# Altium schematic symbol library Conn_Hirose_Electric_DM3AT-SF-PEJM5_eec.SchLib: 1 symbol
Pins are listed as number, name and electrical type; pins without a type are passive.

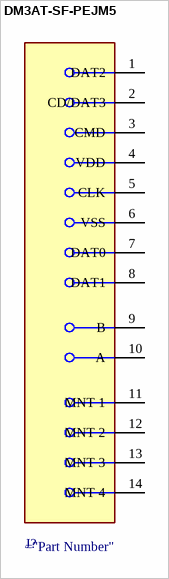
[diagram p0: symbol DM3AT-SF-PEJM5]

## DM3AT-SF-PEJM5
designator J?  (value not drawn)
pins: 1 DAT2, 2 CD/DAT3, 3 CMD, 4 VDD, 5 CLK, 6 VSS, 7 DAT0, 8 DAT1, 9 B, 10 A, 11 MNT 1, 12 MNT 2, 13 MNT 3, 14 MNT 4